# Altium footprint library ALLEGRO_A3930KJPTR-T.PcbLib: 1 footprints
Each footprint in its own frame and in the unit in brackets; x right, y up, seen from the top. Pads: shape width x height; smd on the part's side, far side on the other; paste and mask are expansions set on the pad; w line width, h text height; cw(c..) or ccw(c..) is an arc to the next point about the centre after c.
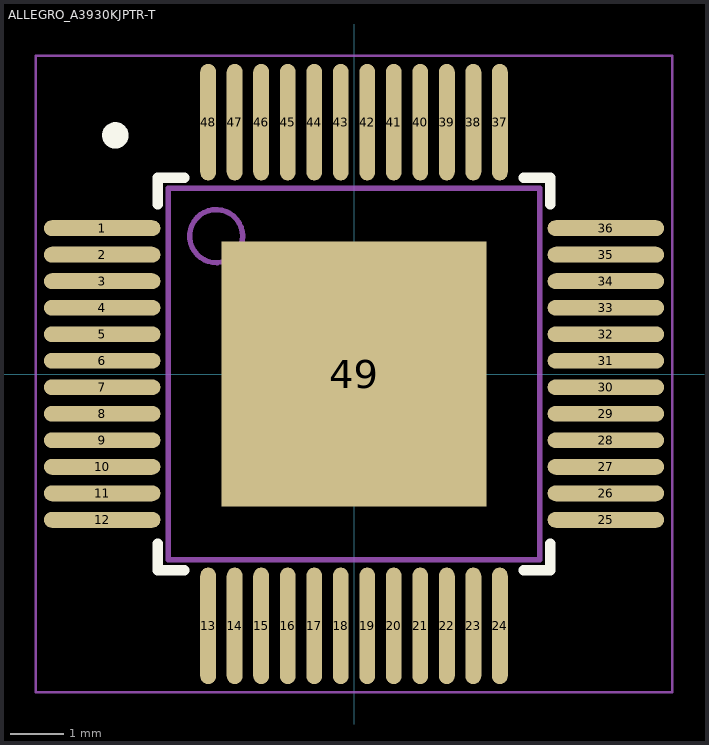
[diagram p0: the footprint, top view; thin cyan lines are the x and y axes]

## ALLEGRO_A3930KJPTR-T [mm] "ALLEGRO_A3930KJPTR-T"
height 1.6
pads (49):
  oval 2.2x0.3 smd: 1(-4.75,2.75) 2(-4.75,2.25) 3(-4.75,1.75) 4(-4.75,1.25) 5(-4.75,0.75) 6(-4.75,0.25) 7(-4.75,-0.25) 8(-4.75,-0.75) 9(-4.75,-1.25) 10(-4.75,-1.75) 11(-4.75,-2.25) 12(-4.75,-2.75) 25(4.75,-2.75) 26(4.75,-2.25) 27(4.75,-1.75) 28(4.75,-1.25) 29(4.75,-0.75) 30(4.75,-0.25) 31(4.75,0.25) 32(4.75,0.75) 33(4.75,1.25) 34(4.75,1.75) 35(4.75,2.25) 36(4.75,2.75)
  oval 0.3x2.2 smd: 13(-2.75,-4.75) 14(-2.25,-4.75) 15(-1.75,-4.75) 16(-1.25,-4.75) 17(-0.75,-4.75) 18(-0.25,-4.75) 19(0.25,-4.75) 20(0.75,-4.75) 21(1.25,-4.75) 22(1.75,-4.75) 23(2.25,-4.75) 24(2.75,-4.75) 37(2.75,4.75) 38(2.25,4.75) 39(1.75,4.75) 40(1.25,4.75) 41(0.75,4.75) 42(0.25,4.75) 43(-0.25,4.75) 44(-0.75,4.75) 45(-1.25,4.75) 46(-1.75,4.75) 47(-2.25,4.75) 48(-2.75,4.75)
  rect 5x5 smd mask+0.102: 49(0,0)
Top Overlay:
  circle w0.25: c-4.5,4.5 r0.125
  lines w0.2: -3.7,-3.2 -3.7,-3.7 -3.2,-3.7 ; -3.7,3.2 -3.7,3.7 -3.2,3.7 ; 3.2,-3.7 3.7,-3.7 3.7,-3.2 ; 3.2,3.7 3.7,3.7 3.7,3.2
Top 3D Body:
  circle w0.1: c-2.6,2.6 r0.5
  lines w0.1: -3.5,-3.5 -3.5,3.5 3.5,3.5 3.5,-3.5 -3.5,-3.5
Top Courtyard (Mech15):
  lines w0.05: -0.5,0 0.5,0 ; 0,-0.5 0,0.5 ; -6,-6 6,-6 6,6 -6,6 -6,-6
  lines w0.1: -0.5,0 0.5,0 ; 0,-0.5 0,0.5
3D body "LQFP48-0.5.step": height 1.45, standoff 0, extent -4.5,-4.5 4.5,4.5